# Altium schematic symbol library Schlib AM625.SchLib: 78 symbols (part 3 of 3)
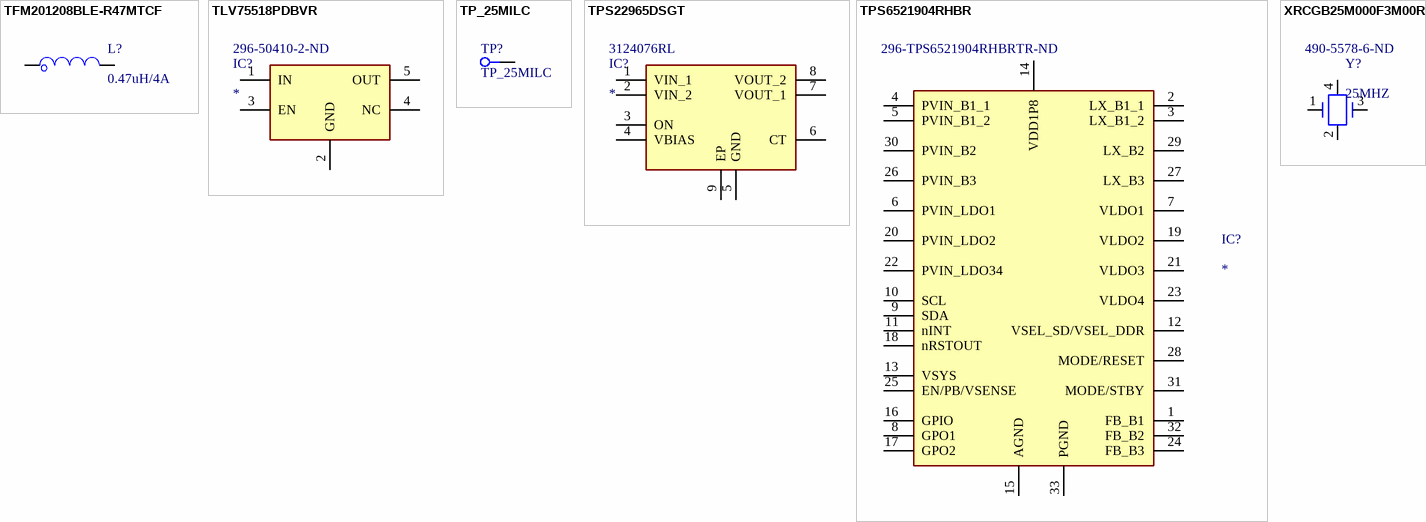
[diagram p7: symbols TFM201208BLE-R47MTCF to XRCGB25M000F3M00R0]

## TPS6521904RHBR
designator IC?  Supplier Part Number 1: 296-TPS6521904RHBRTR-ND
INTEGRATED POWER MANAGEMENT; Manufacturer_Name: Texas Instruments; Manufacturer_Part_Number: TPS92682QRHMRQ1; Manufacturer Part Number: TPS6521904RHBR; Datasheet Link: http://www.ti.com/lit/gpn/TPS92682-Q1; Height: 0.9mm; Mouser Part Number: 595-TPS92682QRHMRQ1; Mouser Price/Stock: https://www.mouser.co.uk/ProductDetail/Texas-Instruments/TPS92682QRHMRQ1?qs=RcG8xmE7yp2UHbI0mG8Vdw%3D%3D; Arrow Part Number: TPS92682QRHMRQ1; Arrow Price/Stock: https://www.arrow.com/en/products/tps92682qrhmrq1/texas-instruments; Supplier 1: Digi-Key; Manufacturer: Texas Instruments; Stock 1: 0; Pricing 1: 3000=1.4508, 6000=1.3962 (USD)
footprint 32-VQFN (5x5)
pins: 1 FB_B1, 2 LX_B1_1, 3 LX_B1_2, 4 PVIN_B1_1, 5 PVIN_B1_2, 6 PVIN_LDO1, 7 VLDO1, 8 GPO1, 9 SDA, 10 SCL, 11 nINT, 12 VSEL_SD/VSEL_DDR, 13 VSYS, 14 VDD1P8, 15 AGND, 16 GPIO, 17 GPO2, 18 nRSTOUT, 19 VLDO2, 20 PVIN_LDO2, 21 VLDO3, 22 PVIN_LDO34, 23 VLDO4, 24 FB_B3, 25 EN/PB/VSENSE, 26 PVIN_B3, 27 LX_B3, 28 MODE/RESET, 29 LX_B2, 30 PVIN_B2, 31 MODE/STBY, 32 FB_B2, 33 PGND

## XRCGB25M000F3M00R0
designator Y?, comment 25MHZ  Supplier Part Number 1: 490-5578-6-ND
CRYSTAL 25.0000MHZ 6PF SMD; Manufacturer: Murata; Manufacturer Part Number: XRCGB25M000F3M00R0; ESR (Equivalent Series Resistance): 150R; Frequency Tolerance: 30ppm; Frequency Stability: 40ppm; Supplier 1: Digi-Key; Stock 1: 131079; Pricing 1: 1=0.31, 10=0.256, 50=0.2306, 100=0.205, 500=0.1948, 1000=0.164 (USD); Mount: Surface Mount; Case/Package: SMD/SMT; Number of Pins: 4; Min Operating Temperature: -30°C; Max Operating Temperature: 85°C; Frequency: 25MHz; Load Capacitance: 6pF; Packaging: Tape and Reel; Tolerance: 30ppm; Package Quantity: 1; Termination: SMD/SMT; Series Resistance: 150R; Series: XRCGB; Length: 2mm; Width: 1.6mm; Height: 0.028inch; Depth: 1.6mm; Reach SVHC Compliant: Yes; Lead Free: Lead Free; RoHS Compliant: Yes; ComponentLink1URL: https://datasheet.ciiva.com/18026/getdatasheetpartid-711202-18026505.pdf?src-supplier=Verical; ComponentLink1Description: https://datasheet.ciiva.com/18026/getdatasheetpartid-711202-18026505.pdf?src-supplier=Verical; ComponentLink2URL: https://datasheet.ciiva.com/1361/p79e-1361519.pdf?src-supplier=Element14; ComponentLink2Description: https://datasheet.ciiva.com/1361/p79e-1361519.pdf?src-supplier=Element14; ComponentLink3URL: https://datasheet.ciiva.com/22695/p79e-22695438.pdf?src-supplier=Element14; ComponentLink3Description: https://datasheet.ciiva.com/22695/p79e-22695438.pdf?src-supplier=Element14; ComponentLink4URL: https://datasheet.ciiva.com/852/p79e-852299.pdf?src-supplier=Digi-Key; ComponentLink4Description: https://datasheet.ciiva.com/852/p79e-852299.pdf?src-supplier=Digi-Key; ComponentLink5URL: https://datasheet.ciiva.com/852/p79e-852298.pdf?src-supplier=Digi-Key; ComponentLink5Description: https://datasheet.ciiva.com/852/p79e-852298.pdf?src-supplier=Digi-Key; ComponentLink6URL: https://datasheet.ciiva.com/852/p79e-852300.pdf?src-supplier=Digi-Key; ComponentLink6Description: https://datasheet.ciiva.com/852/p79e-852300.pdf?src-supplier=Digi-Key
footprint XRCGB25M000F3M00R0
pins: 1, 2, 3, 4